# Altium footprint library PCB_Module.PcbLib: 13 footprints
Each footprint in its own frame and in the unit in brackets; x right, y up, seen from the top. Pads: shape width x height; smd on the part's side, far side on the other; paste and mask are expansions set on the pad; w line width, h text height; cw(c..) or ccw(c..) is an arc to the next point about the centre after c.
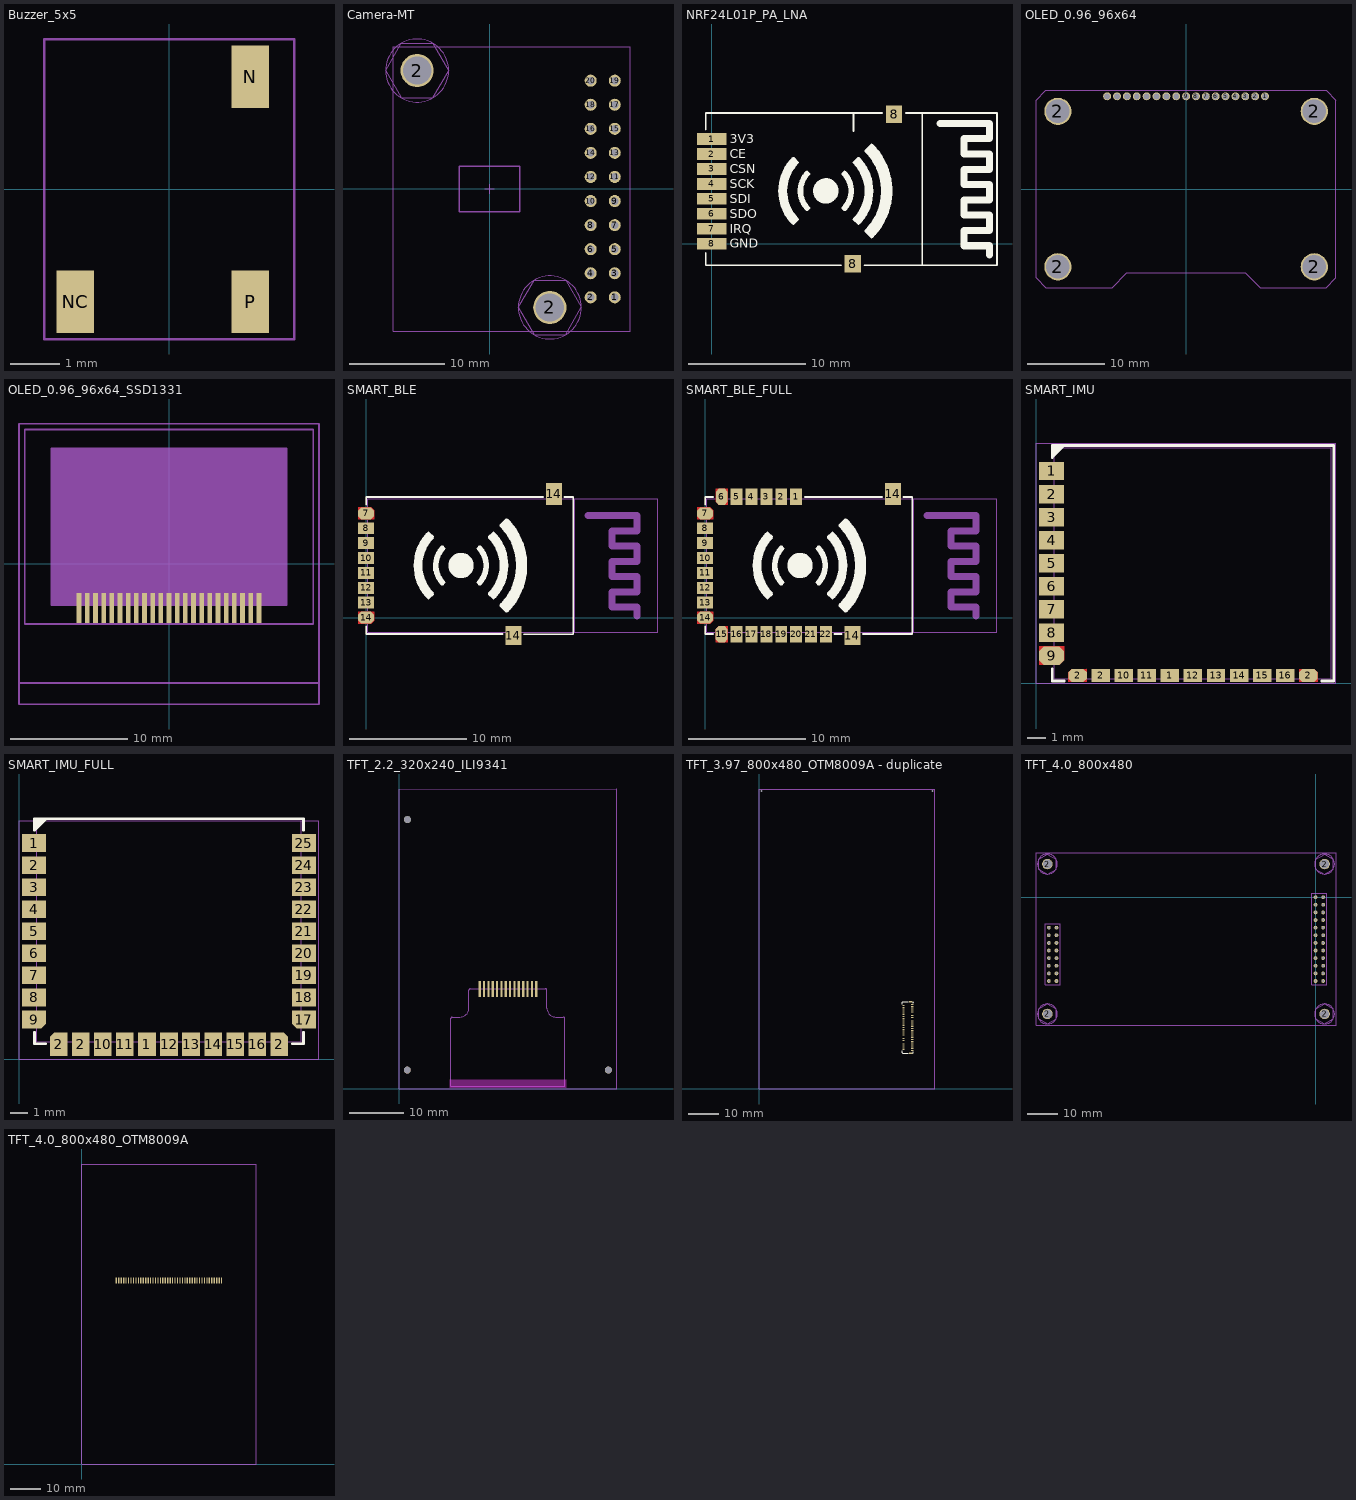
[diagram p0: the footprints below, top view; thin cyan lines are the x and y axes]

## Buzzer_5x5 [mil]
pads (3):
  rect 30x50 smd: N(65,90) NC(-75,-90) P(65,-90)
T-Component:
  lines w2: -100,-120 -100,120 100,120 100,-120 -100,-120
3D body: height 106.3, standoff 0, extent -98.44,-98.43 98.41,98.43

## Camera-MT [mil]
pads (22):
  round 50 hole 31: 1(520,-450) 2(420,-450) 3(520,-350) 4(420,-350) 5(520,-250) 6(420,-250) 7(520,-150) 8(420,-150) 9(520,-50) 10(420,-50) 11(520,50) 12(420,50) 13(520,150) 14(420,150) 15(520,250) 16(420,250) 17(520,350) 18(420,350) 19(520,450) 20(420,450)
  round 137.8 hole 118.11 mask+0: 2(-300.94,492.13) 2(250.24,-492.13)
Mechanical 13:
  circle w2: c250.24,-492.13 r130.98
  circle w2: c-300.94,492.13 r130.98
  lines w2: -19.69,0 19.68,0 ; 0,-19.69 0,19.68 ; -431.92,492.13 -366.43,378.7 -235.46,378.7 -169.97,492.12 -235.46,605.55 -366.43,605.55 -431.92,492.13 ; -399.37,-590.55 584.88,-590.55 584.88,590.55 -399.37,590.55 -399.37,-590.55 ; 119.26,-492.13 184.75,-605.56 315.72,-605.56 381.21,-492.13 315.72,-378.7 184.75,-378.7 119.26,-492.13
  lines w6: -126,-94 -126,94 126,94 126,-94 -126,-94
B-Component:
  lines w1: 510,-450 530,-450 ; 510,-350 530,-350 ; 510,-250 530,-250 ; 510,-150 530,-150 ; 510,-50 530,-50 ; 510,50 530,50 ; 510,150 530,150 ; 510,250 530,250 ; 510,350 530,350 ; 510,450 530,450 ; 520,-460 520,-440 ; 520,-360 520,-340 ; 520,-260 520,-240 ; 520,-160 520,-140 ; 520,-60 520,-40 ; 520,40 520,60 ; 520,140 520,160 ; 520,240 520,260 ; 520,340 520,360 ; 520,440 520,460
3D body: height 334.65, standoff -125.98, extent 371.57,-504.91 568.42,-295.07
3D body: height 334.65, standoff -125.98, extent 371.57,-304.92 568.42,4.93
3D body: height 334.65, standoff -125.98, extent 371.57,195.08 568.42,504.93
3D body: height 334.65, standoff -125.98, extent 371.57,-4.91 568.42,204.93
3D body: height 528.82, standoff 114.65, extent -399.36,-590.55 584.89,590.55

## NRF24L01P_PA_LNA [mm]
pads (10):
  rect 2.5x1 smd: 1(0,8.89) 2(0,7.62) 3(0,6.35) 4(0,5.08) 5(0,3.81) 6(0,2.54) 7(0,1.27) 8(0,0)
  rect 1.4x1.5 smd: 8(12,-1.7) 8(15.5,10.99)
Top Overlay:
  circle w1.143: c9.703,4.481 r0.508
  lines w0.152: -0.508,-0.8 -0.508,-1.844 11,-1.844 ; -0.508,9.7 -0.508,11.11 14.5,11.11 ; 12.061,9.586 12.061,11.11 ; 13,-1.844 24.257,-1.844 24.257,11.11 16.5,11.11 ; 17.905,-1.844 17.905,11.11
  lines w0.254: 6.769,1.877 6.934,1.712 7.29,2.068 7.163,2.195 ; 6.782,7.097 6.934,7.249 7.29,6.894 7.163,6.767 ; 7.976,3.007 8.103,2.88 8.255,3.033 8.128,3.16 ; 7.976,5.954 8.103,6.081 8.255,5.928 8.128,5.801 ; 11.278,3.16 11.151,3.033 11.303,2.88 11.43,3.007 ; 11.278,5.801 11.151,5.928 11.303,6.081 11.43,5.954 ; 12.243,2.195 12.116,2.068 12.471,1.712 12.624,1.864 ; 12.243,6.767 12.116,6.894 12.471,7.249 12.636,7.084 ; 13.348,1.318 13.106,1.077 13.602,0.582 13.843,0.823 ; 13.36,7.63 13.106,7.884 13.602,8.38 13.83,8.151
  lines w0.483: 8.092,3.049 cw(c9.703,4.481) 8.093,5.914 ; 11.312,3.047 ccw(c9.703,4.481) 11.314,5.912
  lines w0.6: 19.431,10.221 23.607,10.221 23.607,8.921 21.463,8.921 21.463,7.621 23.607,7.621 23.607,6.321 21.463,6.321 21.463,5.021 23.607,5.021 23.607,3.721 21.463,3.721 21.463,2.421 23.607,2.421 23.607,1.121 21.463,1.121 21.463,-0.179 23.607,-0.179 23.607,-0.955
  lines w0.762: 6.928,2.088 cw(c9.703,4.481) 6.928,6.873 ; 12.477,2.088 ccw(c9.703,4.481) 12.477,6.873
  lines w0.965: 13.603,1.083 ccw(c9.703,4.481) 13.603,7.878
  text "GND" at 1.549,-0.371 h0.76
  text "IRQ" at 1.549,0.899 h0.76
  text "SDO" at 1.549,2.169 h0.76
  text "SDI" at 1.549,3.439 h0.76
  text "SCK" at 1.549,4.709 h0.76
  text "CSN" at 1.549,5.979 h0.76
  text "3V3" at 1.549,8.519 h0.76
  text "CE" at 1.549,7.249 h0.76
3D body: height 1.18, standoff -0.02, extent -0.381,-1.717 24.13,10.983

## OLED_0.96_96x64 [mil]
pads (21):
  round 40 hole 30: 1(400.45,469.72) 2(350.45,469.72) 3(300.45,469.72) 4(250.45,469.72) 5(200.45,469.72) 6(150.45,469.72) 7(100.45,469.72) 8(50.45,469.72) 9(0.45,469.72) 10(-49.55,469.72) 11(-99.55,469.72) 12(-149.55,469.72) 13(-199.55,469.72) 14(-249.55,469.73) 15(-299.55,469.73) 16(-349.55,469.73) 17(-399.55,469.73)
  round 137.8 hole 118.11 mask+0: 2(-649.15,-393.98) 2(-649.15,393.43) 2(650.06,-393.98) 2(650.06,393.43)
Mechanical 13:
  lines w2: -760,-449.82 -710,-499.82 -374.09,-499.82 -299.55,-425.27 300.45,-425.27 375,-499.82 710,-499.82 760,-449.82 760,450.18 710,500.18 -710,500.18 -760,450.18 -760,-449.82

## OLED_0.96_96x64_SSD1331 [mil]
pads (23):
  rect 16x100 smd mask+1: 1(303.15,-150) 2(275.59,-150) 3(248.03,-150) 4(220.47,-150) 5(192.91,-150) 6(165.35,-150) 7(137.8,-150) 8(110.24,-150) 9(82.68,-150) 10(55.12,-150) 11(27.56,-150) 12(0,-150) 13(-27.56,-150) 14(-55.12,-150) 15(-82.68,-150) 16(-110.24,-150) 17(-137.8,-150) 18(-165.35,-150) 19(-192.91,-150) 20(-220.47,-150) 21(-248.03,-150) 22(-275.59,-150) 23(-303.15,-150)
Mechanical 13:
  region: 396.46,-140 396.46,388.35 -396.46,388.35 -396.46,-140
  lines w6: -505.91,-402.4 505.91,-402.4 ; -505.91,-402.4 -505.91,471.61 505.91,471.61 505.91,-402.4 ; -505.91,-402.4 -505.91,-474.45 505.91,-474.45 505.91,-402.4 ; -486.22,-203.58 486.22,-203.58 486.22,451.93 -486.22,451.93 -486.22,-203.58 ; -396.46,-140 -396.46,388.35 396.46,388.35 396.46,-140 -396.46,-140

## SMART_BLE [mil]
pads (10):
  oct 54x40 smd: 7(0,350) 14(0,0)
  rect 54x40 smd: 8(0,300) 9(0,250) 10(0,200) 11(0,150) 12(0,100) 13(0,50)
  rect 54x64 smd: 14(495,-61)
  rect 54x74 smd: 14(631,416)
Top Layer:
  region: -27,370 17,370 27,360 27,330 -27,330
  region: -27,20 27,20 27,-10 17,-20 -27,-20
Top Overlay:
  circle w45: c319,175 r20
  lines w6: 1,-29 1,-55 459,-55 ; 1,379 1,405 595,405 ; 531,-56 696,-56 696,405 667,405
  lines w10: 203.5,72.5 210,66 224,80 219,85 ; 204,278 210,284 224,270 219,265 ; 251,117 256,112 262,118 257,123 ; 251,233 256,238 262,232 257,227 ; 381,123 376,118 382,112 387,117 ; 381,227 376,232 382,238 387,233 ; 419,85 414,80 428,66 434,72 ; 419,265 414,270 428,284 434.5,277.5 ; 462.5,50.5 453,41 472.5,21.5 482,31 ; 463,299 453,309 472.5,328.5 482.5,318.5
  lines w19: 255.58,118.63 cw(c319,175) 255.63,231.43 ; 382.37,118.57 ccw(c319,175) 382.42,231.37
  lines w30: 209.76,80.79 cw(c319,175) 209.76,269.21 ; 428.24,80.79 ccw(c319,175) 428.24,269.21
  lines w38: 472.57,41.25 ccw(c319,175) 472.57,308.75
Mechanical 13:
  lines w2: 701,-50 701,400 ; 6,-50 6,400 981,400 981,-50 6,-50
  lines w23.62: 746,342.4 910.41,342.4 910.41,291.22 826,291.22 826,240.04 910.41,240.04 910.41,188.86 826,188.86 826,137.68 910.41,137.68 910.41,86.5 826,86.5 826,35.31 910.41,35.31 910.41,4.76
3D body: height 60.16, standoff 3.8, extent 6,-50 981,400

## SMART_BLE_FULL [mil]
pads (24):
  rect 40x54 smd: 1(306,406) 2(256,406) 3(206,406) 4(156,406) 5(106,406) 16(106,-56) 17(156,-56) 18(206,-56) 19(256,-56) 20(306,-56) 21(356,-56) 22(406,-56)
  oct 40x54 smd: 6(56,406) 15(56,-56)
  oct 54x40 smd: 7(0,350) 14(0,0)
  rect 54x40 smd: 8(0,300) 9(0,250) 10(0,200) 11(0,150) 12(0,100) 13(0,50)
  rect 54x64 smd: 14(495,-61)
  rect 54x74 smd: 14(631,416)
Top Layer:
  region: -27,20 27,20 27,-10 17,-20 -27,-20
  region: 36,-83 36,-39 46,-29 76,-29 76,-83
  region: 76,433 76,379 46,379 36,389 36,433
  region: -27,370 17,370 27,360 27,330 -27,330
Top Overlay:
  circle w45: c319,175 r20
  lines w6: 1,-29 1,-55 27,-55 ; 1,379 1,405 27,405 ; 335,405 595,405 ; 435,-55 459,-55 ; 531,-55 696,-55 696,405 667,405
  lines w10: 203.5,72.5 210,66 224,80 219,85 ; 204,278 210,284 224,270 219,265 ; 251,117 256,112 262,118 257,123 ; 251,233 256,238 262,232 257,227 ; 381,123 376,118 382,112 387,117 ; 381,227 376,232 382,238 387,233 ; 419,85 414,80 428,66 434,72 ; 419,265 414,270 428,284 434.5,277.5 ; 462.5,50.5 453,41 472.5,21.5 482,31 ; 463,299 453,309 472.5,328.5 482.5,318.5
  lines w19: 255.58,118.63 cw(c319,175) 255.63,231.43 ; 382.37,118.57 ccw(c319,175) 382.42,231.37
  lines w30: 209.76,80.79 cw(c319,175) 209.76,269.21 ; 428.24,80.79 ccw(c319,175) 428.24,269.21
  lines w38: 472.57,41.25 ccw(c319,175) 472.57,308.75
Mechanical 13:
  lines w2: 701,-50 701,400 ; 6,-50 981,-50 981,400 6,400 6,-50
  lines w23.62: 746,342.4 910.41,342.4 910.41,291.22 826,291.22 826,240.04 910.41,240.04 910.41,188.86 826,188.86 826,137.68 910.41,137.68 910.41,86.5 826,86.5 826,35.31 910.41,35.31 910.41,4.76
3D body: height 60.16, standoff 3.8, extent 6,-50 981,400

## SMART_IMU [mil]
pads (20):
  rect 54x40 smd: 1(34,460) 2(34,410) 3(34,360) 4(34,310) 5(34,260) 6(34,210) 7(34,160) 8(34,110)
  rect 40x28 smd: 1(290,17) 2(140,17) 10(190,17) 11(240,17) 12(340,17) 13(390,17) 14(440,17) 15(490,17) 16(540,17)
  oct 40x28 smd: 2(90,17) 2(590,17)
  oct 54x40 smd: 9(34,60)
Top Layer:
  region: 110,3 70,3 70,24 77,31 110,31
  region: 7,80 61,80 61,50 51,40 7,40
  region: 570,3 570,31 603,31 610,24 610,3
Top Overlay:
  region: 35,515 61,515 35,489
  lines w6: 35,31 35,5 61,5 ; 61,515 35,489 35,515 645,515 645,5 619,5
Mechanical 13:
  lines w2: 40,10 40,510 640,510 640,10 40,10
T-Component:
  lines w2: 0,0 0,520 650,520 650,0 0,0
3D body: height 84.06, standoff -0.4, extent 40,10 640.01,510

## SMART_IMU_FULL [mil]
pads (41):
  rect 54x40 smd: 1(34,490) 2(34,440) 3(34,390) 4(34,340) 5(34,290) 6(34,240) 7(34,190) 8(34,140) 18(646,140) 19(646,190) 20(646,240) 21(646,290) 22(646,340) 23(646,390) 24(646,440) 25(646,490)
  rect 40x54 smd: 1(290,34) 2(140,34) 10(190,34) 11(240,34) 12(340,34) 13(390,34) 14(440,34) 15(490,34) 16(540,34)
  rect 10x10 smd: 2(75,12) 2(105,12) 2(105,56) 2(575,12) 2(575,56) 2(605,12) 9(12,75) 9(12,105) 9(56,105) 17(624,105) 17(668,75) 17(668,105)
  oct 40x54 smd: 2(90,34) 2(590,34)
  oct 54x40 smd: 9(34,90) 17(646,90)
Top Overlay:
  region: 35,545 61,545 35,519
  lines w6: 35,61 35,35 61,35 ; 61,545 35,519 35,545 645,545 645,519 ; 619,35 645,35 645,61
Mechanical 13:
  lines w2: 40,40 640,40 640,540 40,540 40,40
T-Component:
  lines w2: 0,0 0,540 680,540 680,0 0,0
3D body: height 84.06, standoff -0.4, extent 40,40 640,540

## TFT_2.2_320x240_ILI9341 [mil]
pads (17):
  round 50 hole 50 unplated mask+0: 1(59.74,137) 1(60.74,1952) 1(1516.74,137)
  rect 16x118 smd mask+1: 1(993.87,724) 2(962.38,724) 3(930.88,724) 4(899.39,724) 5(867.89,724) 6(836.39,724) 7(804.9,724) 8(773.4,724) 9(741.9,724) 10(710.41,724) 11(678.91,724) 12(647.42,724) 13(615.92,724) 14(584.42,724)
Keep-Out Layer:
  board cut-out: 1212,66.34 1212,8.23 367.78,8.23 367.78,66.34
Mechanical 13:
  lines w2: 0,0 0,2174 1579,2174 1579,0 0,0 ; 376,21.34 1201,21.34 1201,511.34 ccw(c1191,511.34) 1191,521.34 1136,521.34 cw(c1136,586.34) 1071,586.34 1071,716.34 ccw(c1061,716.34) 1061,726.34 516,726.34 ccw(c516,716.34) 506,716.34 506,586.34 cw(c441,586.34) 441,521.34 386,521.34 ccw(c386,511.34) 376,511.34 376,21.34

## TFT_3.97_800x480_OTM8009A - duplicate [mil]
pads (55):
  round 0 hole 25 mask+0: 0(31.5,3827.38) 0(2226.5,3827.38)
  rect 40x16 smd: 0(1947,459.27) 0(1947,1118.72)
  rect 30x12 smd: 1(1967,1084.28) 2(1855,1072.46) 3(1967,1060.65) 4(1855,1048.84) 5(1967,1037.03) 6(1855,1025.22) 7(1967,1013.41) 8(1855,1001.6) 9(1967,989.79) 10(1855,977.98) 11(1967,966.16) 12(1855,954.35) 13(1967,942.54) 14(1855,930.73) 15(1967.19,918.92) 16(1855,907.11) 17(1967,895.3) 18(1855,883.49) 19(1967,871.68) 20(1855,859.87) 21(1967,848.05) 22(1855,836.24) 23(1967,824.43) 24(1855,812.62) 25(1967,800.81) 26(1855,789) 27(1967,777.19) 28(1855,765.38) 29(1967,753.57) 30(1855,741.76) 31(1967,729.95) 32(1855,718.13) 33(1967,706.32) 34(1855,694.51) 35(1967,682.7) 36(1855,670.89) 37(1967,659.08) 38(1855,647.27) 39(1967,635.46) 40(1855,623.65) 41(1967,611.84) 42(1855,600.02) 43(1967,588.21) 44(1855,576.4) 45(1967,564.59) 46(1855,552.78) 47(1967,540.97) 48(1855,529.16) 49(1967,517.35) 50(1855,505.54) 51(1967,493.73)
Top Overlay:
  lines w6: 1841,491 1841,464 1846,459 ; 1841,1087 1841,1114 1846,1119 ; 1846.28,459 1918,459 ; 1846.28,1119 1918,1119 ; 1976,459 1981,464 1981,479 ; 1976,1119 1981,1114 1981,1099
Mechanical 13:
  lines w2: 0,0 2258,0 2258,3851 0,3851 0,0
T-Component:
  lines w2: 0,0 2258,0 2258,3851 0,3851 0,0
3D body: height 35.43, standoff 0, extent 1842.15,452.4 1979.55,1125.62

## TFT_4.0_800x480 [mil]
pads (44):
  round 50 hole 31: 1(0,0) 2(100,0) 3(0,-100) 4(100,-100) 5(0,-200) 6(100,-200) 7(0,-300) 8(100,-300) 9(0,-400) 10(100,-400) 11(0,-500) 12(100,-500) 13(0,-600) 14(100,-600) 15(0,-700) 16(100,-700) 17(0,-800) 18(100,-800) 19(0,-900) 20(100,-900) 21(0,-1000) 22(100,-1000) 23(0,-1100) 24(100,-1100) 25(-3500,-400) 26(-3400,-400) 27(-3500,-500) 28(-3400,-500) 29(-3500,-600) 30(-3400,-600) 31(-3500,-700) 32(-3400,-700) 33(-3500,-800) 34(-3400,-800) 35(-3500,-900) 36(-3400,-900) 37(-3500,-1000) 38(-3400,-1000) 39(-3500,-1100) 40(-3400,-1100)
  round 137.8 hole 118.11 mask+0: 2(-3518.5,-1532.5) 2(-3518.5,435) 2(118.5,-1532.5) 2(118.5,435)
Mechanical 13:
  circle w2: c118.5,-1532.5 r130.98
  circle w2: c-3518.5,-1532.5 r130.98
  circle w2: c-3518.5,435 r130.98
  circle w2: c118.5,435 r130.98
  lines w2: -3668.5,-1682.5 268.5,-1682.5 268.5,585 -3668.5,585 -3668.5,-1682.5 ; -3631.93,-1597.99 -3518.5,-1663.48 -3405.08,-1597.99 -3405.08,-1467.01 -3518.5,-1401.52 -3631.93,-1467.01 -3631.93,-1597.99 ; -3631.93,369.51 -3518.5,304.02 -3405.08,369.51 -3405.08,500.49 -3518.5,565.98 -3631.93,500.49 -3631.93,369.51 ; -3550,-1150 -3550,-350 -3350,-350 -3350,-1150 -3550,-1150 ; -50,-1150 -50,50 150,50 150,-1150 -50,-1150 ; 5.07,-1597.99 5.07,-1467.01 118.5,-1401.52 231.93,-1467.01 231.93,-1597.99 118.5,-1663.48 5.07,-1597.99 ; 5.07,369.51 118.5,304.02 231.93,369.51 231.93,500.49 118.5,565.98 5.07,500.49 5.07,369.51
B-Component:
  lines w1: -3510,-400 -3490,-400 ; -3500,-410 -3500,-390 ; -10,0 10,0 ; 0,-10 0,10

## TFT_4.0_800x480_OTM8009A [mm]
pads (44):
  rect 0.4x2 smd: 1(11.3,60) 2(12.1,60) 3(12.9,60) 4(13.7,60) 5(14.5,60) 6(15.3,60) 7(16.1,60) 8(16.9,60) 9(17.7,60) 10(18.5,60) 11(19.3,60) 12(20.1,60) 13(20.9,60) 14(21.7,60) 15(22.5,60) 16(23.3,60) 17(24.1,60) 18(24.9,60) 19(25.7,60) 20(26.5,60) 21(27.3,60) 22(28.1,60) 23(28.9,60) 24(29.7,60) 25(30.5,60) 26(31.3,60) 27(32.1,60) 28(32.9,60) 29(33.7,60) 30(34.5,60) 31(35.3,60) 32(36.1,60) 33(36.9,60) 34(37.7,60) 35(38.5,60) 36(39.3,60) 37(40.1,60) 38(40.9,60) 39(41.7,60) 40(42.5,60) 41(43.3,60) 42(44.1,60) 43(44.9,60) 44(45.7,60)
Mechanical 13:
  lines w0.051: 0,0 0,98.044 57.023,98.044 57.023,0 0,0